# Altium schematic symbol library LAN7800_USB_Ethernet_RevA.SchLib: 11 symbols
Pins are listed as number, name and electrical type; pins without a type are passive.

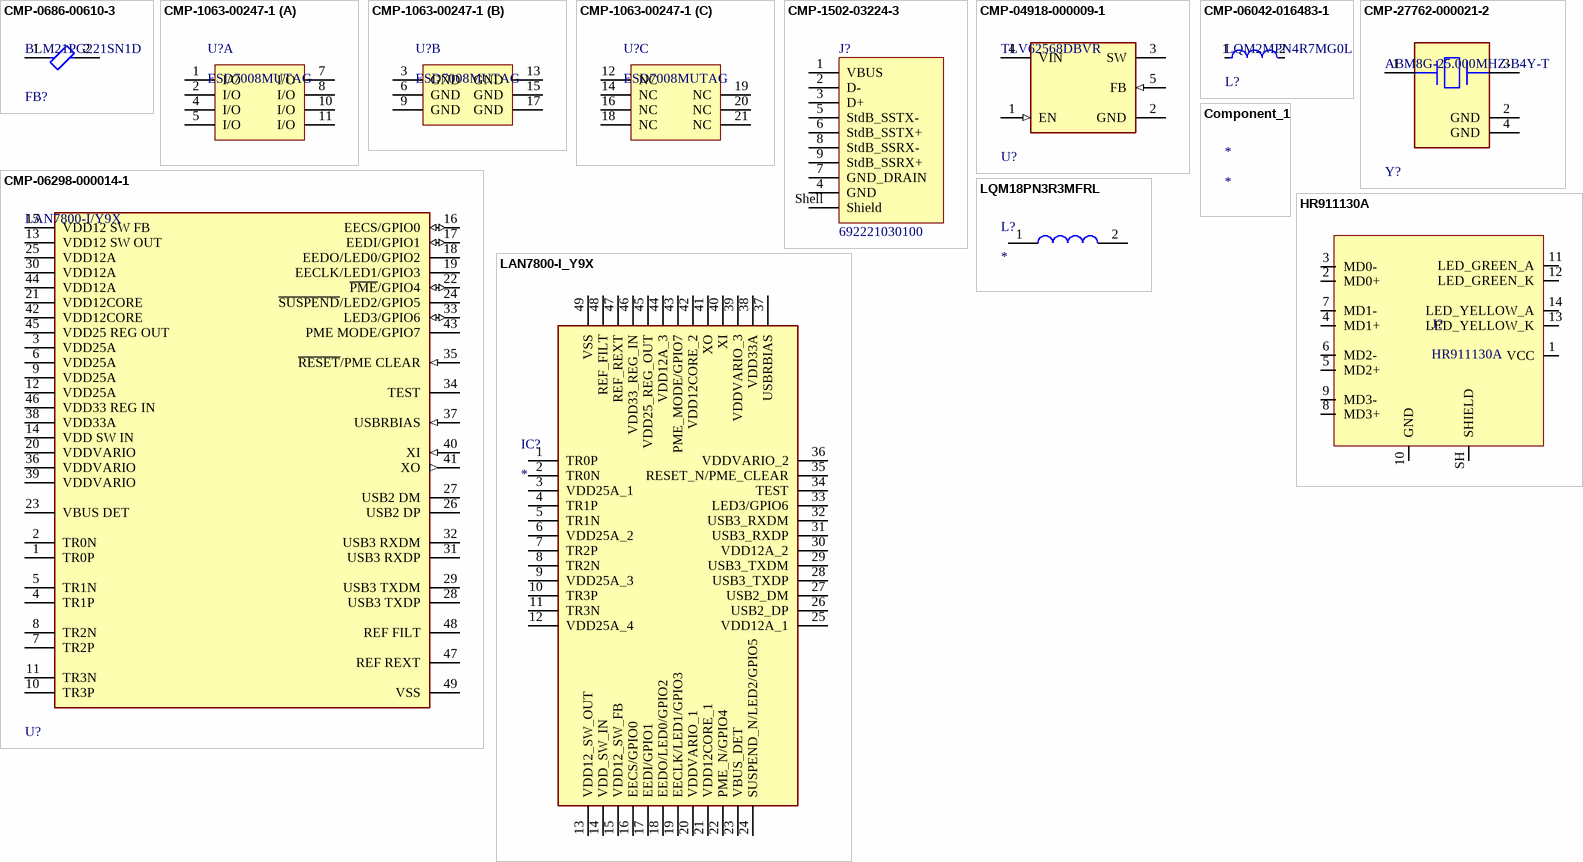
[diagram p0: symbols CMP-0686-00610-3 to LQM18PN3R3MFRL]

## CMP-0686-00610-3
designator FB?, comment BLM21PG221SN1D
Chip Ferrite Bead, 0805, 220Ω @ 100MHz, 0.045Ω, 25%, 2A; Number of Circuits: 1; Shielding: Unshielded; DC Resistance (DCR): 45mR; Impedance: 220R; Radiation Hardening: No; Material: Ferrite; Frequency: 100MHz; Width: 1.25mm; DC Current: 2A; Max DC Current: 2A; Number of Lines: 1; Package Quantity: 1; Case Code (Metric): 2012; Current Rating: 2A; Case/Package: 0805; Current: 2A; Military Standard: Not; Core Material: Ferrite; Depth: 1.25mm; Contact Plating: Tin; DC Resistance-Max: 45mR; Max Operating Temperature: 125°C; Length: 2mm; Max Current Rating: 2A; REACH SVHC: No SVHC; Termination: SMD/SMT; Min Operating Temperature: -55°C; Series: BLM21P; Test Frequency: 100MHz; Tolerance: 25%; Number of Pins: 2; RoHS Compliant: Yes; Height: 0.85mm; Packaging: Tape and Reel; Lead Free: Lead Free; Case Code (Imperial): 0805
footprint FP-BLM21-0_2-t0_85-e0_5-IPC_C
footprint FP-BLM21-0_2-t0_85-e0_5-IPC_B
footprint FP-BLM21-0_2-t0_85-e0_5-IPC_A
footprint FP-BLM21-0_2-t0_85-e0_5-MFG
pins: 1, 2

## CMP-1063-00247-1
designator U?, comment ESD7008MUTAG
Transient Voltage Suppressor, Low Capacitance ESD Protection for High Speed Data, 18-Pin UDFN, Pb-Free, Tape and Reel; Manufacturer: On Semiconductor; VRWM Max (V): 5; V(BR) Min (V): 5.5; Direction: Bidirectional; Number of Lines: 8; IR Max (uA): 1; ComponentLink1Description: Manufacturer URL; PackageReference: UDFN-18-517BV; PackageDescription: 18-Pin Small Outline No-Lead, Body 5.5 x 1.5 mm; PartNumber: ESD7008MUTAG; ComponentLink3URL: http://www.onsemi.cn/pub_link/Collateral/517BV.PDF; PackageVersion: Rev. A, 12/2012; ComponentLink2URL: http://www.onsemi.cn/pub_link/Collateral/ESD7008-D.PDF; DatasheetVersion: Rev. 4; ComponentLink2Description: Datasheet; RoHS: Pb-Free; Packing: Tape and Reel; Mounting Technology: Surface Mount; ComponentLink1URL: http://www.onsemi.com/; ComponentLink3Description: Package Specification
footprint ONSC-UDFN-18-517BV_V (SON, 18-Leads, Body 5.5x1.5mm)
part A pins: 1 I/O, 2 I/O, 4 I/O, 5 I/O, 7 I/O, 8 I/O, 10 I/O, 11 I/O
part B pins: 3 GND (power), 6 GND (power), 9 GND (power), 13 GND (power), 15 GND (power), 17 GND (power)
part C pins: 12 NC, 14 NC, 16 NC, 18 NC, 19 NC, 20 NC, 21 NC

## CMP-1502-03224-3
designator J?, comment 692221030100
Conn USB 3.0 Type B RCP 9 POS (1.75mm/2.5)mm/1.25mm Solder RA Thru-Hole 9 Terminal 1 Port Tray; Gender: Receptacle; USB Standard: USB 3.0; Insulation Resistance: 100MΩ; Voltage Rating: 30V; Current Rating: 250mA; Number of Contacts: 9; Contact Resistance: 50mΩ; Number of Ports: 1; Max Operating Temperature: 85°C; Contact Plating: Gold; Termination: Through Hole; Orientation: Horizontal; Contact Material: Nickel, Tin; RoHS: Compliant; Min Operating Temperature: -20°C; Flammability Rating: UL94 V-0; Connector Type: USB; Height: 13.05mm; Features: Shielded; Number of Pins: 9; Operating Supply Voltage: 30V; Mount: Horizontal, PCB, Through Hole; Lead Free: Lead Free; Voltage Rating (AC): 30V; Length: 12mm; Width: 18.3mm; Color: Blue
footprint 692221030100 (USB 3.0 Type B Horizontal)
pins: 1 VBUS, 2 D-, 3 D+, 4 GND, 5 StdB_SSTX-, 6 StdB_SSTX+, 7 GND_DRAIN, 8 StdB_SSRX-, 9 StdB_SSRX+, Shell Shield

## CMP-04918-000009-1
designator U?, comment TLV62568DBVR
IC REG BUCK ADJ 1A SOT23-5; Manufacturer: Texas Instruments; Number Of Outputs: 1; Max Supply Voltage: 5.5V; Nominal Supply Current: 35uA; Standoff Height: 0mm; Max Junction Temp: +125°C; Output Voltage: 0.6-5.5V; Max Duty Cycle: 100%; Output Type: AdjustableProgrammable; Min Supply Voltage: 2.5V; Switching Frequency: 1.5MHz; Height: 1.45mm; Mouser Description: 1-A High Efficiency Synchronous Buck Converter, SMD, 5-pin SOT-23, T/R 3k; Temperature Range High: +125°C; Manufacturer Part Number: TLV62568DBVR; Switching Topology: Buck; ComponentLink2Description: Datasheet; Digikey Description: IC REG BUCK ADJ 1A SOT23-5; Octopart: https://octopart.com/tlv62568dbvr-texas+instruments-76926199; Category: IC; Device Class L1: Integrated Circuits (ICs); RoHS: TRUE; ComponentLink2URL: http://www.ti.com/lit/ds/symlink/tlv62568.pdf; Lead Free: Yes; Package: DBV0005A; Automotive: No; Device Class L2: Power Management ICs; Temperature: -40°C to +125°C; Temperature Range Low: -40°C; Device Class L3: Voltage Regulators - Switching; Output Current: 1A
footprint FP-DBV0005A-MFG
footprint FP-DBV0005A-IPC_B
footprint FP-DBV0005A-IPC_C
footprint FP-DBV0005A-IPC_A
pins: 1 EN (in), 2 GND (power), 3 SW, 4 VIN (power), 5 FB (in)

## CMP-06042-016483-1
designator L?, comment LQM2MPN4R7MG0L
Multilayer Type Inductor for Power Lines, 0806 (2016), 4.7μH, 20%, 0.175Ω, 1.1A; Self Resonant Frequency: 20MHz; DC Resistance (DCR): 175mR; Test Frequency: 1MHz; Core Material: Ferrite; Shielding: Shielded; Inductance: 4.7uH; Max DC Current: 1.1A; Case Code (Metric): 2016; Min Operating Temperature: -55°C; Military Standard: Not; Depth: 1.75mm; RoHS Compliant: Yes; Packaging: Tape and Reel; Termination: SMD/SMT; Max Operating Temperature: 125°C; Case Code (Imperial): 0806; Width: 0.049inch; Package Quantity: 3000; Length: 0.079inch; DC Current: 1.1A; Mount: Surface Mount; Current Rating: 1.1A; Height - Seated (Max): 0.039inch; Case/Package: 0805; Weight: 0.000353oz; Height: 0.9mm; Tolerance: 20%
footprint FP-LQM2MPN_G0-IPC_B
footprint FP-LQM2MPN_G0-MFG
footprint FP-LQM2MPN_G0-IPC_A
footprint FP-LQM2MPN_G0-IPC_C
pins: 1, 2

## CMP-06298-000014-1
designator U?, comment LAN7800-I/Y9X
IC ETHERNET CTLR USB 48SQFN; Operating Supply Current: 4mA; Min Operating Temperature: -40°C; Max Operating Temperature: 85°C; Packaging: Tray
footprint FP-48SQFN-5304-7x7B-IPC_B
footprint FP-48SQFN-5304-7x7B-IPC_A
footprint FP-48SQFN-5304-7x7B-IPC_C
footprint FP-48SQFN-5304-7x7B-MFG
pins: 1 TR0P, 2 TR0N, 3 VDD25A (power), 4 TR1P, 5 TR1N, 6 VDD25A (power), 7 TR2P, 8 TR2N, 9 VDD25A (power), 10 TR3P, 11 TR3N, 12 VDD25A (power), 13 VDD12 SW OUT (power), 14 VDD SW IN (power), 15 VDD12 SW FB (power), 16 EECS/GPIO0 (io), 17 EEDI/GPIO1 (io), 18 EEDO/LED0/GPIO2, 19 EECLK/LED1/GPIO3, 20 VDDVARIO (power), 21 VDD12CORE (power), 22 ~{PME}/GPIO4 (io), 23 VBUS DET (power), 24 ~{SUSPEND}/LED2/GPIO5, 25 VDD12A (power), 26 USB2 DP, 27 USB2 DM, 28 USB3 TXDP, 29 USB3 TXDM, 30 VDD12A (power), 31 USB3 RXDP, 32 USB3 RXDM, 33 LED3/GPIO6 (io), 34 TEST, 35 ~{RESET}/PME CLEAR (in), 36 VDDVARIO (power), 37 USBRBIAS (in), 38 VDD33A (power), 39 VDDVARIO (power), 40 XI (in), 41 XO (out), 42 VDD12CORE (power), 43 PME MODE/GPIO7, 44 VDD12A (power), 45 VDD25 REG OUT (power), 46 VDD33 REG IN (power), 47 REF REXT, 48 REF FILT, 49 VSS (power)

## CMP-27762-000021-2
designator Y?, comment ABM8G-25.000MHZ-B4Y-T
Crystal 25MHz ±30ppm (Tol) ±30ppm (Stability) 10pF FUND 60Ω 4-Pin SMD T/R; ESR (Equivalent Series Resistance): 60R; Depth: 2.5mm; Frequency Stability: 30ppm; Mount: Surface Mount; Lead Free: Lead Free; Max Operating Temperature: 70°C; Series: ABM8G; Frequency Tolerance: 30ppm; Min Operating Temperature: -20°C; Number of Pins: 4; Operating Frequency: 25 MHz; Termination: SMD/SMT; Frequency: 25MHz; Case/Package: CSMD; Packaging: Tape and Reel; Package Quantity: 1000; Tolerance: 30ppm; Length: 3.2mm; Height: 0.039inch; Load Capacitance: 10pF; Width: 0.098inch; Series Resistance: 60R
footprint FP-ABM8G-MFG
pins: 1, 2 GND (power), 3, 4 GND (power)

## Component_1
designator *

## HR911130A
designator J?
100/1000Base-T Magnetics Single-Port RJ45 Connector with Integrated Magnetics and LEDs; Manufacturer: Hanrun; Manufacturer Part Number: HR911130A
footprint HR911130A
pins: 1 VCC, 2 MD0+, 3 MD0-, 4 MD1+, 5 MD2+, 6 MD2-, 7 MD1-, 8 MD3+, 9 MD3-, 10 GND, 11 LED_GREEN_A, 12 LED_GREEN_K, 13 LED_YELLOW_K, 14 LED_YELLOW_A, SH SHIELD

## LAN7800-I_Y9X
designator IC?
Integrated Circuit; Manufacturer_Name: Microchip; Manufacturer_Part_Number: LAN7800-I/Y9X; Datasheet Link: http://www.microchip.com/mymicrochip/filehandler.aspx?ddocname=en588570; Height: 1mm; Mouser Part Number: 579-LAN7800-I/Y9X; Mouser Price/Stock: https://www.mouser.co.uk/ProductDetail/Microchip-Technology/LAN7800-I-Y9X?qs=IP4CA2YhK0A6CPlmyB4HtA%3D%3D; Arrow Part Number: LAN7800-I/Y9X; Arrow Price/Stock: https://www.arrow.com/en/products/lan7800-iy9x/microchip-technology.html?utm_currency=USD&region=nac
footprint FP-48SQFN-5304-7x7B-MFG
footprint FP-48SQFN-5304-7x7B-MFG
pins: 1 TR0P, 2 TR0N, 3 VDD25A_1, 4 TR1P, 5 TR1N, 6 VDD25A_2, 7 TR2P, 8 TR2N, 9 VDD25A_3, 10 TR3P, 11 TR3N, 12 VDD25A_4, 13 VDD12_SW_OUT, 14 VDD_SW_IN, 15 VDD12_SW_FB, 16 EECS/GPIO0, 17 EEDI/GPIO1, 18 EEDO/LED0/GPIO2, 19 EECLK/LED1/GPIO3, 20 VDDVARIO_1, 21 VDD12CORE_1, 22 PME_N/GPIO4, 23 VBUS_DET, 24 SUSPEND_N/LED2/GPIO5, 25 VDD12A_1, 26 USB2_DP, 27 USB2_DM, 28 USB3_TXDP, 29 USB3_TXDM, 30 VDD12A_2, 31 USB3_RXDP, 32 USB3_RXDM, 33 LED3/GPIO6, 34 TEST, 35 RESET_N/PME_CLEAR, 36 VDDVARIO_2, 37 USBRBIAS, 38 VDD33A, 39 VDDVARIO_3, 40 XI, 41 XO, 42 VDD12CORE_2, 43 PME_MODE/GPIO7, 44 VDD12A_3, 45 VDD25_REG_OUT, 46 VDD33_REG_IN, 47 REF_REXT, 48 REF_FILT, 49 VSS

## LQM18PN3R3MFRL
designator L?
Inductor; Manufacturer_Name: Murata Electronics; Manufacturer_Part_Number: LQM18PN3R3MFRL; Datasheet Link: https://search.murata.co.jp/Ceramy/image/img/P02/JELF243B-0033.pdf; Height: 0.95mm; Mouser Part Number: 81-LQM18PN3R3MFRL; Mouser Price/Stock: https://www.mouser.co.uk/ProductDetail/Murata-Electronics/LQM18PN3R3MFRL?qs=Gufeu08L%2Fl3lDzOKkPPhgg%3D%3D; Arrow Part Number: LQM18PN3R3MFRL; Arrow Price/Stock: https://www.arrow.com/en/products/lqm18pn3r3mfrl/murata-manufacturing
footprint LQM18PH1R0MFRB
pins: 1, 2